# EAGLE library part 0.05"_HEADER (library 00_custom)
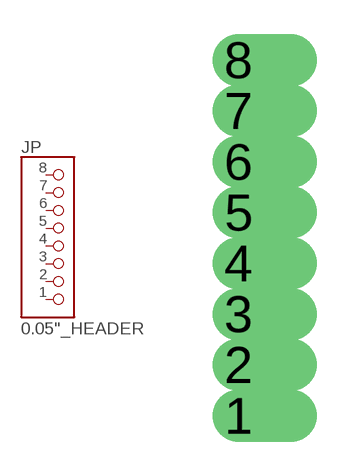
[diagram p7: symbol with the pads of 0.05"_HEADER; footprint 0.05"_HEADER]

Designator prefix JP

## 0.05"_HEADER  [0.05"_HEADER]
1  1  pas
2  2  pas
3  3  pas
4  4  pas
5  5  pas
6  6  pas
7  7  pas
8  8  pas

## Footprint 0.05"_HEADER (pad centres in mm)
drill 0.8 pad 1.016 offset: 1 0,0; 2 0,1.27; 3 0,2.54; 4 0,3.81; 5 0,5.08; 6 0,6.35; 7 0,7.62; 8 0,8.89